# EAGLE library part GTL2010BS (library graftel-internal-ic)
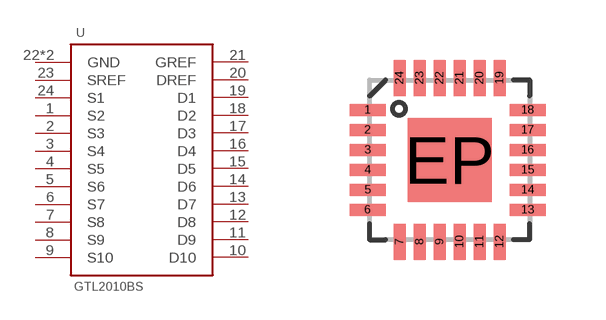
[diagram p15: symbol with the pads of QFN-24_ALT2; footprint QFN-24_ALT2]

Designator prefix U

## GTL2010BS  [QFN-24_ALT2]
1  S2
2  S3
3  S4
4  S5
5  S6
6  S7
7  S8
8  S9
9  S10
10  D10
11  D9
12  D8
13  D7
14  D6
15  D5
16  D4
17  D3
18  D2
19  D1
20  DREF
21  GREF
22  GND
23  SREF
24  S1
EP  GND

## Footprint QFN-24_ALT2 (pad centres in mm)
24-pin QFN with Exposed Thermal pad Parts that use this package: A6282 Last modified: 8/20/10 ***UNPROVEN***
smd 0.9 x 0.3: 1 -2.05,1.25; 2 -2.05,0.75; 3 -2.05,0.25; 4 -2.05,-0.25; 5 -2.05,-0.75; 6 -2.05,-1.25; 13 1.95,-1.25; 14 1.95,-0.75; 15 1.95,-0.25; 16 1.95,0.25; 17 1.95,0.75; 18 1.95,1.25
smd 0.3 x 0.9: 7 -1.25,-2.05; 8 -0.75,-2.05; 9 -0.25,-2.05; 10 0.25,-2.05; 11 0.75,-2.05; 12 1.25,-2.05; 19 1.25,2.05; 20 0.75,2.05; 21 0.25,2.05; 22 -0.25,2.05; 23 -0.75,2.05; 24 -1.25,2.05
smd 2.1 x 2.1: EP 0,0